# Altium integrated library Shielded Wirewounded Inductors.IntLib: 1 symbol
Pins are listed as number, name and electrical type; pins without a type are passive.

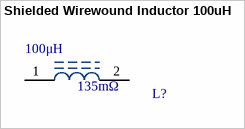
[diagram p0: symbol Shielded Wirewound Inductor 100uH]

## Shielded Wirewound Inductor 100uH
designator L?  Inductance: 100μH  Resistence: 135mΩ  (hidden comment: Shielded Wirewound Inductor 100uH)
100µH Shielded Wirewound Inductor 2.5A 135mOhm Max Nonstandard; Manufacturer 1: Bourns Inc.; Manufacturer 1 PN: SRR1210-101M; Digikey PN: SRR1210-101MCT-ND; Mouser PN: 652-SRR1210-101M; Current: 2.5A; ComponentLink1Description: Datasheet; ComponentLink1URL: https://www.bourns.com/docs/Product-Datasheets/SRR1210.pdf
footprint Shielded Wirewound Inductor 100uH (100µH Shielded Wirewound Inductor 2.5A 135mOhm Max Nonstandard)
pins: 1 (power), 2 (power)